# Altium schematic symbol library Mechanical.SchLib: 7 symbols
Pins are listed as number, name and electrical type; pins without a type are passive.

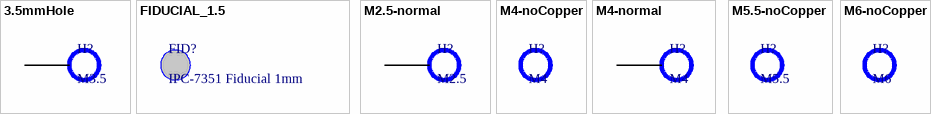
[diagram p0: symbols 3.5mmHole to M6-noCopper]

## 3.5mmHole
designator H?, comment M3.5  (no BOM)
3.5mm loose fit hole for M3 machine screw; PNP-da: 0
footprint M3.5
pins: 1

## FIDUCIAL_1.5
designator FID?, comment IPC-7351 Fiducial 1mm
PNP-Nzl: 2; PNP-dx: 0; PNP-X: 4; PNP-A: 1; PNP-Thk: 1.02; PNP-TS: 70; PNP-Type: MARK1; PNP-dy: 0; PNP-Y: 4; PNP-Pt: 0; PNP-W: 0; PNP-Lv: 1; PNP-Level: 1; PNP-Voff: 0; PNP-FeedType: Fiducial; PNP-TapeWidth: 0; PNP-PlacePriority: 0; PNP-TapeIndex: 0; PNP-da: 0
footprint FIDUCIAL_1.5
pins: 1 hidden

## M2.5-normal
designator H?, comment M2.5  (no BOM)
2.9mm dia. hole for a normal fit M2.5 clearance hole; PNP-da: 0
footprint M2.5-normal
pins: 1

## M4-noCopper
designator H?, comment M4  (no BOM)
4.5mm dia. hole for a normal fit M4 clearance hole - no copper; PNP-da: 0
footprint M4-NOCOPPER

## M4-normal
designator H?, comment M4  (no BOM)
4.5mm dia. hole for a normal fit M4 clearance hole; PNP-da: 0
footprint M4-normal
pins: 1

## M5.5-noCopper
designator H?, comment M5.5  (no BOM)
6mm dia. hole for a normal fit M5.5 clearance hole - no copper; PNP-da: 0
footprint M5.5-NOCOPPER

## M6-noCopper
designator H?, comment M6  (no BOM)
6.5mm dia. hole for a normal fit M6 clearance hole - no copper; PNP-da: 0
footprint M6-NOCOPPER